# Altium schematic symbol library BAT24CWFILMY.Schlib: 1 symbol
Pins are listed as number, name and electrical type; pins without a type are passive.

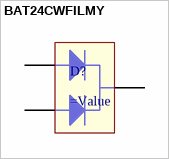
[diagram p0: symbol BAT24CWFILMY]

## BAT24CWFILMY
designator D?
=Description
pins: 1 A1, 2 A2, 3 K